# Altium schematic symbol library RK3588底板.SCHLIB: 111 symbols
Pins are listed as number, name and electrical type; pins without a type are passive.

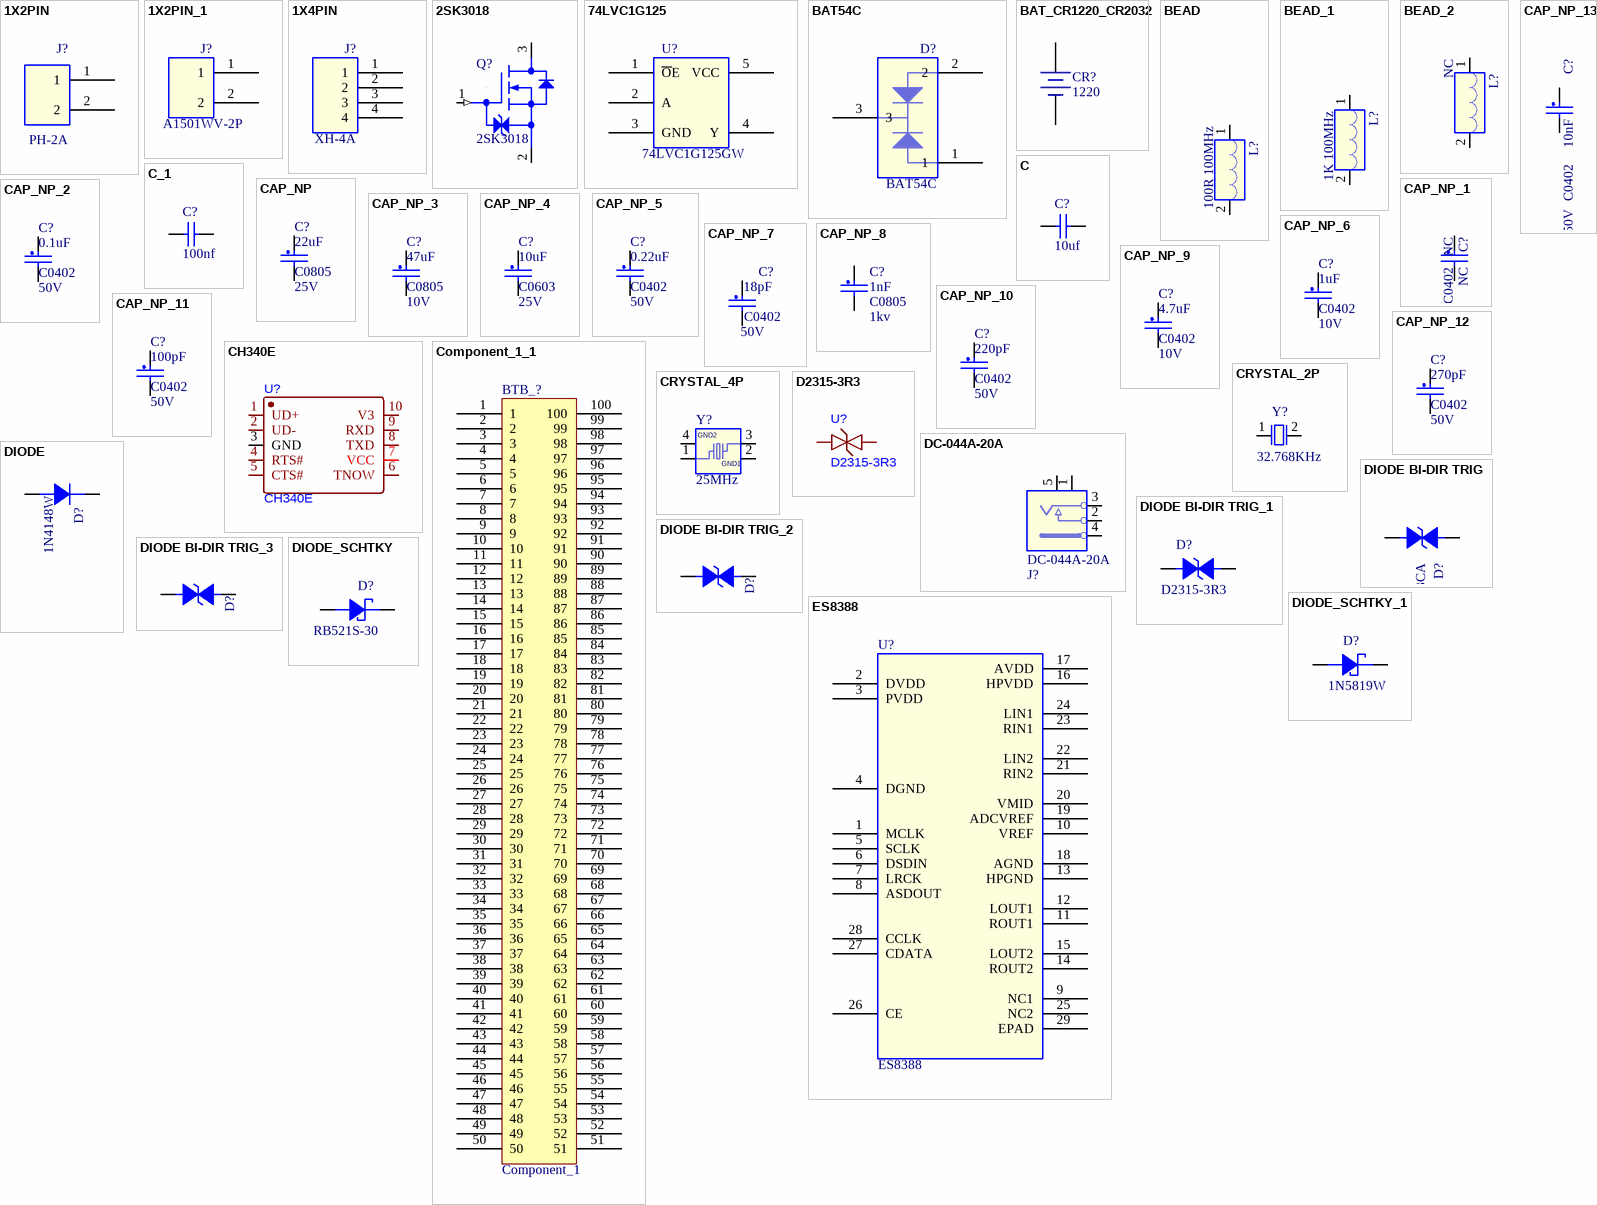
[diagram p0: symbols 1X2PIN to ES8388]

## 1X2PIN
designator J?, comment PH-2A
PCB Footprint: PH-1x2-2P0_l; 可替代料: EBF29040005; 生命周期: 量产; 价格: 0.019031; 规格书: 博穆精密_PH2.0-A.pdf; 类别: PH连接器; 品牌: 博穆精密; 规格: 直针PH2.0-2P 间距2.0MM 拔插式 接插件; 条码: EBF29040005; 规格编号: PH-2A
footprint PH-1x2-2P0_l
pins: 1, 2

## 1X2PIN_1
designator J?, comment A1501WV-2P
PCB Footprint: zh1p5mm_th_2p; 生命周期: 量产; 规格书: 长江连接器_A1501WV-2P.PDF; 类别: 线对板连接器; 品牌: 长江连接器; 条码: EBF29040095; 规格: ZH1.5直插 镀锡 2P 针座连接器; 规格编号: A1501WV-2P
footprint zh1p5mm_th_2p
pins: 1, 2

## 1X4PIN
designator J?, comment XH-4A
PCB Footprint: XH2p54-4p; 可替代料: EBF29040012; 生命周期: 量产; 价格: 0.041116; 规格书: 博穆精密-XH2.54.pdf; 类别: XH连接器; 品牌: 博穆精密; 规格: 直针XH2.54-4P 间距2.54MM 拔插式 接插件 直插; 条码: EBF29040012; 规格编号: XH-4A
footprint XH2p54-4p
pins: 1, 2, 3, 4

## 2SK3018
designator Q?
CLASS: IC; PCB Footprint: SOT23; 丝印: KN; 生命周期: 量产; 价格: 0.120725; 规格书: 长电科技-2SK3018.pdf; 类别: N-MOS; 品牌: 江苏长电; 条码: EBF29280009; 规格: N沟道MOS 导通电阻8Ω 电流10mA 0.8V可驱动; 规格编号: 2SK3018
footprint SOT23
pins: 1 GATE (in), 2 SOURCE, 3 DRAIN

## 74LVC1G125
designator U?, comment 74LVC1G125GW
PCB Footprint: SOT-353; 丝印: VM; 生命周期: 量产; 价格: 0.182409; 规格书: 74LVC1G125GW.pdf; 类别: 隔离器件; 品牌: 安世; 条码: EBF29170001; 规格: 时钟缓冲器 驱动器 具有三态输出 允许工作电压为3.3V 5.5V 典型工作电流100mA; 规格编号: 74LVC1G125GW
footprint SOT-353
pins: 1 ~{O}E, 2 A, 3 GND, 4 Y, 5 VCC

## BAT54C
designator D?
PCB Footprint: SOT23; 规格: 肖特基双二极管 直流反向耐压(Vr) 30V 平均整流电流(Io) 300mA 正向压降(Vf) 1V@100mA; 条码: EBF29140062; 品牌: 江苏长电; 类别: 贴片肖特基二极管; 规格书: 江苏长电_BAT54C.pdf; 价格: 0.077486; 生命周期: 量产; 丝印: KL3; 规格编号: BAT54C
footprint SOT23
pins: 1, 2, 3

## BAT_CR1220_CR2032
designator CR?, comment 1220
微型电池; 联系下单店铺卖家 免费技术支持: 联系下单店铺卖家 免费帮你查找封装; BOM名称: 微型电池
footprint CR1220_A (纽扣电池座)
footprint CR1220_B (纽扣电池座)
footprint ML621FE (可充电纽扣电池)
footprint CR2032_A (纽扣电池座)
footprint CR2032_B (纽扣电池座)
pins: 1 DC+, 2 DC-

## BEAD
designator L?, comment 100R 100MHz
CLASS: DISCRETE; 规格: 磁珠100Ω @100MHz 额定电流3A 直流电阻30mΩ; 规格编号: UPZ1608E101-3R0TF; 条码: EBF29050038; 品牌: 顺络; 类别: 贴片磁珠0603; 规格书: 顺络-磁珠.pdf; 价格: 0.021567; 生命周期: 量产; PCB Footprint: L0603
footprint L0603
pins: 1, 2

## BEAD_1
designator L?, comment 1K 100MHz
CLASS: DISCRETE; 规格: 磁珠1K@100MHz额定电流600mA直流电阻350mΩ; 规格编号: BLM18HE102SN1D; 条码: EBFCIS230428095012; 品牌: 村田; 类别: 贴片磁珠0603; 规格书: 村田_BLM18H_SN系列磁珠.pdf; 价格: 0.149038; 生命周期: 量产; 备注: RK3566广告机; PCB Footprint: L0603
footprint L0603
pins: 1, 2

## BEAD_2
designator L?, comment NC
CLASS: DISCRETE; 生命周期: 量产; 价格: 0.021567; 规格书: 顺络-磁珠.pdf; 类别: 贴片磁珠0603; 品牌: 顺络; 条码: EBF29050038; 规格编号: UPZ1608E101-3R0TF; 规格: 磁珠100Ω @100MHz 额定电流3A 直流电阻30mΩ; PCB Footprint: L0603
footprint L0603
pins: 1, 2

## C
designator C?, comment 10uf
贴片电容/MLCC电容; BOM名称: 无极性贴片电容; 联系下单店铺卖家 免费帮你查找封装: 联系下单店铺卖家 免费技术支持
footprint C0201_L (贴片MLCC电容)
footprint C0402_L (贴片MLCC电容)
footprint C0603_L (贴片MLCC电容)
footprint C0805_L (贴片MLCC电容)
footprint C1206_L (贴片MLCC电容)
footprint C1210_L (贴片MLCC电容)
footprint C1808_L (贴片MLCC电容)
footprint C1812_L (贴片MLCC电容                  联系卖家 免费查找封装)
footprint C1825_L (贴片MLCC电容)
footprint C2225_L (贴片MLCC电容)
footprint C0201_M (贴片MLCC电容                联系卖家 免费查找封装)
footprint C0402_M (贴片MLCC电容)
footprint C0603_M (贴片MLCC电容)
footprint C0805_M (贴片MLCC电容)
footprint C1206_M (贴片MLCC电容)
footprint C1210_M (贴片MLCC电容)
footprint C1808_M (贴片MLCC电容)
footprint C1812_M (贴片MLCC电容)
footprint C1825_M (贴片MLCC电容      联系卖家 免费查找封装)
footprint C2225_M (贴片MLCC电容)
footprint C0201_NS (贴片MLCC电容-无丝印)
footprint C0402_NS (贴片MLCC电容-无丝印)
footprint C01005_NS (贴片MLCC电容-无丝印)
footprint C0805_NS (贴片MLCC电容-无丝印)
footprint C1206_NS (贴片MLCC电容-无丝印)
footprint C1210_NS (贴片MLCC电容 -无丝印)
footprint C0603_NS (贴片MLCC电容-无丝印)
footprint C0204_NS (贴片MLCC电容-无丝印)
footprint C1111_NS (贴片MLCC电容-无丝印)
footprint C2220 (贴片MLCC电容)
footprint C3838 (贴片MLCC电容-无丝印)
pins: 1, 2

## C_1
designator C?, comment 100nf
贴片电容/MLCC电容; BOM名称: 无极性贴片电容; 联系下单店铺卖家 免费帮你查找封装: 联系下单店铺卖家 免费技术支持
footprint C0201_L (贴片MLCC电容)
footprint C0402_L (贴片MLCC电容)
footprint C0603_L (贴片MLCC电容)
footprint C0805_L (贴片MLCC电容)
footprint C1206_L (贴片MLCC电容)
footprint C1210_L (贴片MLCC电容)
footprint C1808_L (贴片MLCC电容)
footprint C1812_L (贴片MLCC电容                  联系卖家 免费查找封装)
footprint C1825_L (贴片MLCC电容)
footprint C2225_L (贴片MLCC电容)
footprint C0201_M (贴片MLCC电容                联系卖家 免费查找封装)
footprint C0402_M (贴片MLCC电容)
footprint C0603_M (贴片MLCC电容)
footprint C0805_M (贴片MLCC电容)
footprint C1206_M (贴片MLCC电容)
footprint C1210_M (贴片MLCC电容)
footprint C1808_M (贴片MLCC电容)
footprint C1812_M (贴片MLCC电容)
footprint C1825_M (贴片MLCC电容      联系卖家 免费查找封装)
footprint C2225_M (贴片MLCC电容)
footprint C0201_NS (贴片MLCC电容-无丝印)
footprint C0402_NS (贴片MLCC电容-无丝印)
footprint C01005_NS (贴片MLCC电容-无丝印)
footprint C0805_NS (贴片MLCC电容-无丝印)
footprint C1206_NS (贴片MLCC电容-无丝印)
footprint C1210_NS (贴片MLCC电容 -无丝印)
footprint C0603_NS (贴片MLCC电容-无丝印)
footprint C0204_NS (贴片MLCC电容-无丝印)
footprint C1111_NS (贴片MLCC电容-无丝印)
footprint C2220 (贴片MLCC电容)
footprint C3838 (贴片MLCC电容-无丝印)
pins: 1, 2

## CAP_NP
designator C?, comment 22uF  Voltage: 25V  PCB Footprint: C0805
CLASS: DISCRETE; 规格: 贴片电容22uF 20% 25V X5R 0805; 规格编号: 0805X226M250NT; 条码: EBF29060173; 品牌: 风华; 类别: 贴片电容0805; 规格书: 风华电容.pdf; 价格: 0.285631; 生命周期: 量产
footprint C0805
pins: 1, 2

## CAP_NP_1
designator C?, comment NC  PCB Footprint: C0402
CLASS: DISCRETE; 规格: 贴片电容NC 预留; 条码: EBF29060149; 类别: 贴片电容0402; Voltage: NC
footprint C0402
pins: 1, 2

## CAP_NP_2
designator C?, comment 0.1uF  Voltage: 50V  PCB Footprint: C0402
CLASS: DISCRETE; 规格: 贴片电容0.1uF 10% 50V X5R 0402; 规格编号: 0402X104K500NT; 条码: EBF29060118; 品牌: 风华; 类别: 贴片电容0402; 规格书: 风华电容.pdf; 价格: 0.029826; 生命周期: 量产
footprint C0402
pins: 1, 2

## CAP_NP_3
designator C?, comment 47uF  Voltage: 10V  PCB Footprint: C0805
CLASS: DISCRETE; 规格: 贴片电容47uF 20% 10V X5R 0805; 规格编号: 0805X476M100NT; 条码: EBF29060212; 品牌: 风华; 类别: 贴片电容0805; 规格书: 风华电容.pdf; 价格: 0.368494; 生命周期: 量产
footprint C0805
pins: 1, 2

## CAP_NP_4
designator C?, comment 10uF  Voltage: 25V  PCB Footprint: C0603
CLASS: DISCRETE; 生命周期: 量产; 价格: 0.109811; 规格书: 三星电容.pdf; 类别: 贴片电容0603; 品牌: 三星; 条码: EBF29060171; 规格编号: CL10A106MA8NRNC; 规格: 贴片电容10uF 20% 25V X5R 0603
footprint C0603
pins: 1, 2

## CAP_NP_5
designator C?, comment 0.22uF  Voltage: 50V  PCB Footprint: C0402
CLASS: DISCRETE; 生命周期: 量产; 价格: 0.074942; 规格书: 太诱-贴片电容.pdf; 类别: 贴片电容0402; 品牌: 太诱; 条码: EBF29060266; 规格编号: UMK105BJ224MV-F; 规格: 贴片电容0.22uF 20% 50V X5R 0402
footprint C0402
pins: 1, 2

## CAP_NP_6
designator C?, comment 1uF  Voltage: 10V  PCB Footprint: C0402
CLASS: DISCRETE; 规格: 贴片电容1uF 10% 10V X5R 0402; 规格编号: 0402X105K100NT; 条码: EBF29060121; 品牌: 风华; 类别: 贴片电容0402; 规格书: 风华电容.pdf; 价格: 0.01191; 生命周期: 量产
footprint C0402
pins: 1, 2

## CAP_NP_7
designator C?, comment 18pF  Voltage: 50V  PCB Footprint: C0402
CLASS: DISCRETE; 规格: 贴片电容18pF 5% 50V C0G 0402; 规格编号: 0402CG180J500NT; 条码: EBF29060235; 品牌: 风华; 类别: 贴片电容0402; 规格书: 风华电容.pdf; 价格: 0.00515; 生命周期: 量产
footprint C0402
pins: 1, 2

## CAP_NP_8
designator C?, comment 1nF  Voltage: 1kv  PCB Footprint: C0805
CLASS: DISCRETE; 生命周期: 量产; 价格: 0.083527; 规格书: 华新科0805系列高压贴片电容.pdf; 类别: 贴片电容0805; 品牌: 华新科; 条码: EBF29060304; 规格编号: 0805B102K102CT; 规格: 贴片电容1nF 10% 1kV X7R 0805
footprint C0805
pins: 1, 2

## CAP_NP_9
designator C?, comment 4.7uF  Voltage: 10V  PCB Footprint: C0402
CLASS: DISCRETE; 规格: 贴片电容4.7uF 10% 10V X5R 0402; 规格编号: CC0402KRX5R6BB475; 条码: EBF29060248; 品牌: 国巨; 类别: 贴片电容0402; 规格书: 国巨-贴片电容.pdf; 价格: 0.059058; 生命周期: 量产
footprint C0402
pins: 1, 2

## CAP_NP_10
designator C?, comment 220pF  Voltage: 50V  PCB Footprint: C0402
CLASS: DISCRETE; 价格: 0.00358; 规格书: 风华电容.pdf; 类别: 贴片电容0402; 品牌: 风华; 条码: EBFCIS221112143723; 规格编号: 0402B221K500NT; 规格: 贴片电容220pF 10% 50V X7R 0402
footprint C0402
pins: 1, 2

## CAP_NP_11
designator C?, comment 100pF  Voltage: 50V  PCB Footprint: C0402
CLASS: DISCRETE; 生命周期: 量产; 价格: 0.034837; 规格书: 村田040系列贴片电容.pdf; 类别: 贴片电容0402; 品牌: 村田; 条码: EBF29060302; 规格编号: GRT1555C1H101JA; 规格: 贴片电容100pF 5% 50V C0G 0402
footprint C0402
pins: 1, 2

## CAP_NP_12
designator C?, comment 270pF  Voltage: 50V  PCB Footprint: C0402
CLASS: DISCRETE; 规格: 贴片电容270pF 5% 50V C0G 0402; 规格编号: 0402CG271J500NT; 条码: EBF29060290; 品牌: 风华; 类别: 贴片电容0402; 规格书: 风华电容.pdf; 价格: 0.018204; 生命周期: 量产
footprint C0402
pins: 1, 2

## CAP_NP_13
designator C?, comment 10nF  Voltage: 50V  PCB Footprint: C0402
CLASS: DISCRETE; 规格: 贴片电容10nF 10% 50V X7R 0402; 规格编号: CC0402KRX7R9BB103; 条码: EBF29060245; 品牌: 国巨; 类别: 贴片电容0402; 规格书: 国巨-贴片电容.pdf; 价格: 0.003808; 生命周期: 量产
footprint C0402
pins: 1, 2

## CH340E
designator U?
footprint MSOP-10_L3.0-W3.0-P0.50-LS5.0-BL
pins: 1 UD+, 2 UD-, 3 GND, 4 RTS#, 5 CTS#, 6 TNOW, 7 VCC, 8 TXD, 9 RXD, 10 V3

## Component_1_1
designator BTB_?, comment Component_1
footprint F_100PIN (0.5双槽板对板母座，100P)
pins: 1, 2, 3, 4, 5, 6, 7, 8, 9, 10, 11, 12, 13, 14, 15, 16, 17, 18, 19, 20, 21, 22, 23, 24, 25, 26, 27, 28, 29, 30, 31, 32, 33, 34, 35, 36, 37, 38, 39, 40, 41, 42, 43, 44, 45, 46, 47, 48, 49, 50, 51, 52, 53, 54, 55, 56, 57, 58, 59, 60, 61, 62, 63, 64, 65, 66, 67, 68, 69, 70, 71, 72, 73, 74, 75, 76, 77, 78, 79, 80, 81, 82, 83, 84, 85, 86, 87, 88, 89, 90, 91, 92, 93, 94, 95, 96, 97, 98, 99, 100

## CRYSTAL_2P
designator Y?, comment 32.768KHz
PCB Footprint: 3215; 生命周期: 量产; 价格: 2.57; 规格书: 爱普生-32.768KHz.pdf; 类别: 贴片晶振 3215; 品牌: 爱普生; 条码: EBF29100004; 规格编号: Q13FC1350000300; 规格: 无源晶振32.768KHz 70KΩ 9pF 3215
footprint 3215
pins: 1, 2

## CRYSTAL_4P
designator Y?, comment 25MHz
CLASS: IC; PCB Footprint: 3225; 规格: 无源晶振25MHZ 50Ω 16pF 3225; 规格编号: X322525MQB4SI; 条码: EBF29100005; 品牌: 扬兴科技; 类别: 贴片晶振 3225; 规格书: 扬兴科技-25MHZ.pdf; 价格: 0.385846; 生命周期: 量产
footprint 3225
pins: 1, 2 GND1 (power), 3, 4 GND2 (power)

## D2315-3R3
designator U?
footprint DFN1006-2L-BI
pins: 1, 2

## DC-044A-20A
designator J?
PCB Footprint: dc_in_th_3p_10r1x11r6; 生命周期: 量产; 规格书: DC插座_内径_2MM外径_5.9MM.pdf; 类别: DC电源座; 条码: EBF29040093; 规格编号: DC-044A-20A DC; 规格: DC-044A-20A DC插座
footprint dc_in_th_3p_10r1x11r6
pins: 1, 2, 3, 4, 5

## DIODE
designator D?, comment 1N4148W
丝印: T4; 生命周期: 量产; 价格: 0.061637; 规格书: 1N4148WT4.pdf; 类别: 贴片开关二极管; 品牌: 江苏长电; 条码: EBF29140015; 规格: 开关二极管 反向耐压值100V 平均整流电流150mA 正向压降1.25V 150mA 功率500mW; PCB Footprint: SOD-123; 规格编号: 1N4148W
footprint SOD-123
pins: 1 K, 2 A

## DIODE BI-DIR TRIG
designator D?, comment SMAJ13CA
规格: TVS二极管 箝位电压21.5V 击穿电压14.4V 反向关断电压13V; 条码: EBF29140049; 品牌: 伯恩半导体; 类别: 贴片TVS; PCB Footprint: SMA_CA; 规格书: 伯恩半导体-SMAJ13CA.pdf; 价格: 0.181964; 生命周期: 量产; 规格编号: SMAJ13CA
footprint D0603/SMD
footprint SMA_CA
footprint esd0402
pins: 1, 2

## DIODE BI-DIR TRIG_1
designator D?, comment D2315-3R3
PCB Footprint: esd0402; 生命周期: 量产; 规格书: 千虹_D2315-3R3.pdf; 类别: 贴片ESD; 品牌: 千虹; 条码: EBFCIS240517170749; 规格: 防静电保护ESD二极管 反向工作电压3.3V 击穿电压3.5V 钳位电压9V 结电容Cj 10pF; 备注: 通用; 规格编号: D2315-3R3
footprint D0603/SMD
footprint esd0402
pins: 1, 2

## DIODE BI-DIR TRIG_2
designator D?, comment D2315-5R0B  (value not drawn)
PCB Footprint: esd0402; 备注: 通用; 生命周期: 量产; 规格书: 千虹_D2315-5R0B.pdf; 类别: 贴片ESD; 品牌: 千虹; 条码: EBFCIS240517170922; 规格: 防静电保护ESD二极管 反向工作电压5V 击穿电压7V 钳位电压10.5V 结电容Cj 0.3pF; 规格编号: D2315-5R0B
footprint D0603/SMD
footprint esd0402
pins: 1, 2

## DIODE BI-DIR TRIG_3
designator D?, comment D1250-5R5C  (value not drawn)
PCB Footprint: R0201; 备注: 应用于HDMI2.1; 生命周期: 量产; 规格书: 千虹_D1250-5R5C.pdf; 类别: 贴片ESD; 品牌: 千虹; 条码: EBFCIS240604160037; 规格: 防静电保护ESD二极管 反向工作电压5.5V 击穿电压6V 钳位电压10.5V 结电容Cj 0.17pF; 规格编号: D1250-5R5C
footprint D0603/SMD
footprint R0201
footprint esd0402
pins: 1, 2

## DIODE_SCHTKY
designator D?, comment RB521S-30
CLASS: IC; PCB Footprint: SOD523; 生命周期: 量产; 价格: 0.06781; 规格书: 江苏长电_RB521S-30.pdf; 类别: 贴片肖特基二极管; 品牌: 江苏长电; 条码: EBFCIS221114153437; 规格: 直流反向耐压(Vr)：30V 平均整流电流(Io)：200mA 正向压降(Vf)：500mV@200mA 30V@100mA,VF=350mV@10mA; 规格编号: RB521S-30
footprint SOD523
pins: 1, 2

## DIODE_SCHTKY_1
designator D?, comment 1N5819W
CLASS: IC; PCB Footprint: SOD-123; 规格: 肖特基二极管 直流反向耐压40V 平均整流电流1A 正向压降0.6V@1A SOD-123; 条码: EBF29140016; 品牌: 台湾迪嘉; 类别: 贴片肖特基二极管; 规格书: 1N5819W.pdf; 价格: 0.175675; 生命周期: 量产; 丝印: SL; 规格编号: 1N5819W
footprint SOD-123
pins: 1, 2

## ES8388
designator U?
价格: 3.904; 规格书: 顺芯_ES8388.pdf; 类别: 音频芯片; 品牌: 顺芯; 条码: EBFCIS221116105415; 规格: 音频接口芯片 模拟供电1.7V~3.6V 核心与IO供电1.5V~3.6V; PCB Footprint: qfn28_0r45-4x4EP2R6X2R6; 规格编号: ES8388
footprint qfn28_0r45-4x4EP2R6X2R6
pins: 1 MCLK, 2 DVDD, 3 PVDD, 4 DGND, 5 SCLK, 6 DSDIN, 7 LRCK, 8 ASDOUT, 9 NC1, 10 VREF, 11 ROUT1, 12 LOUT1, 13 HPGND, 14 ROUT2, 15 LOUT2, 16 HPVDD, 17 AVDD, 18 AGND, 19 ADCVREF, 20 VMID, 21 RIN2, 22 LIN2, 23 RIN1, 24 LIN1, 25 NC2, 26 CE, 27 CDATA, 28 CCLK, 29 EPAD

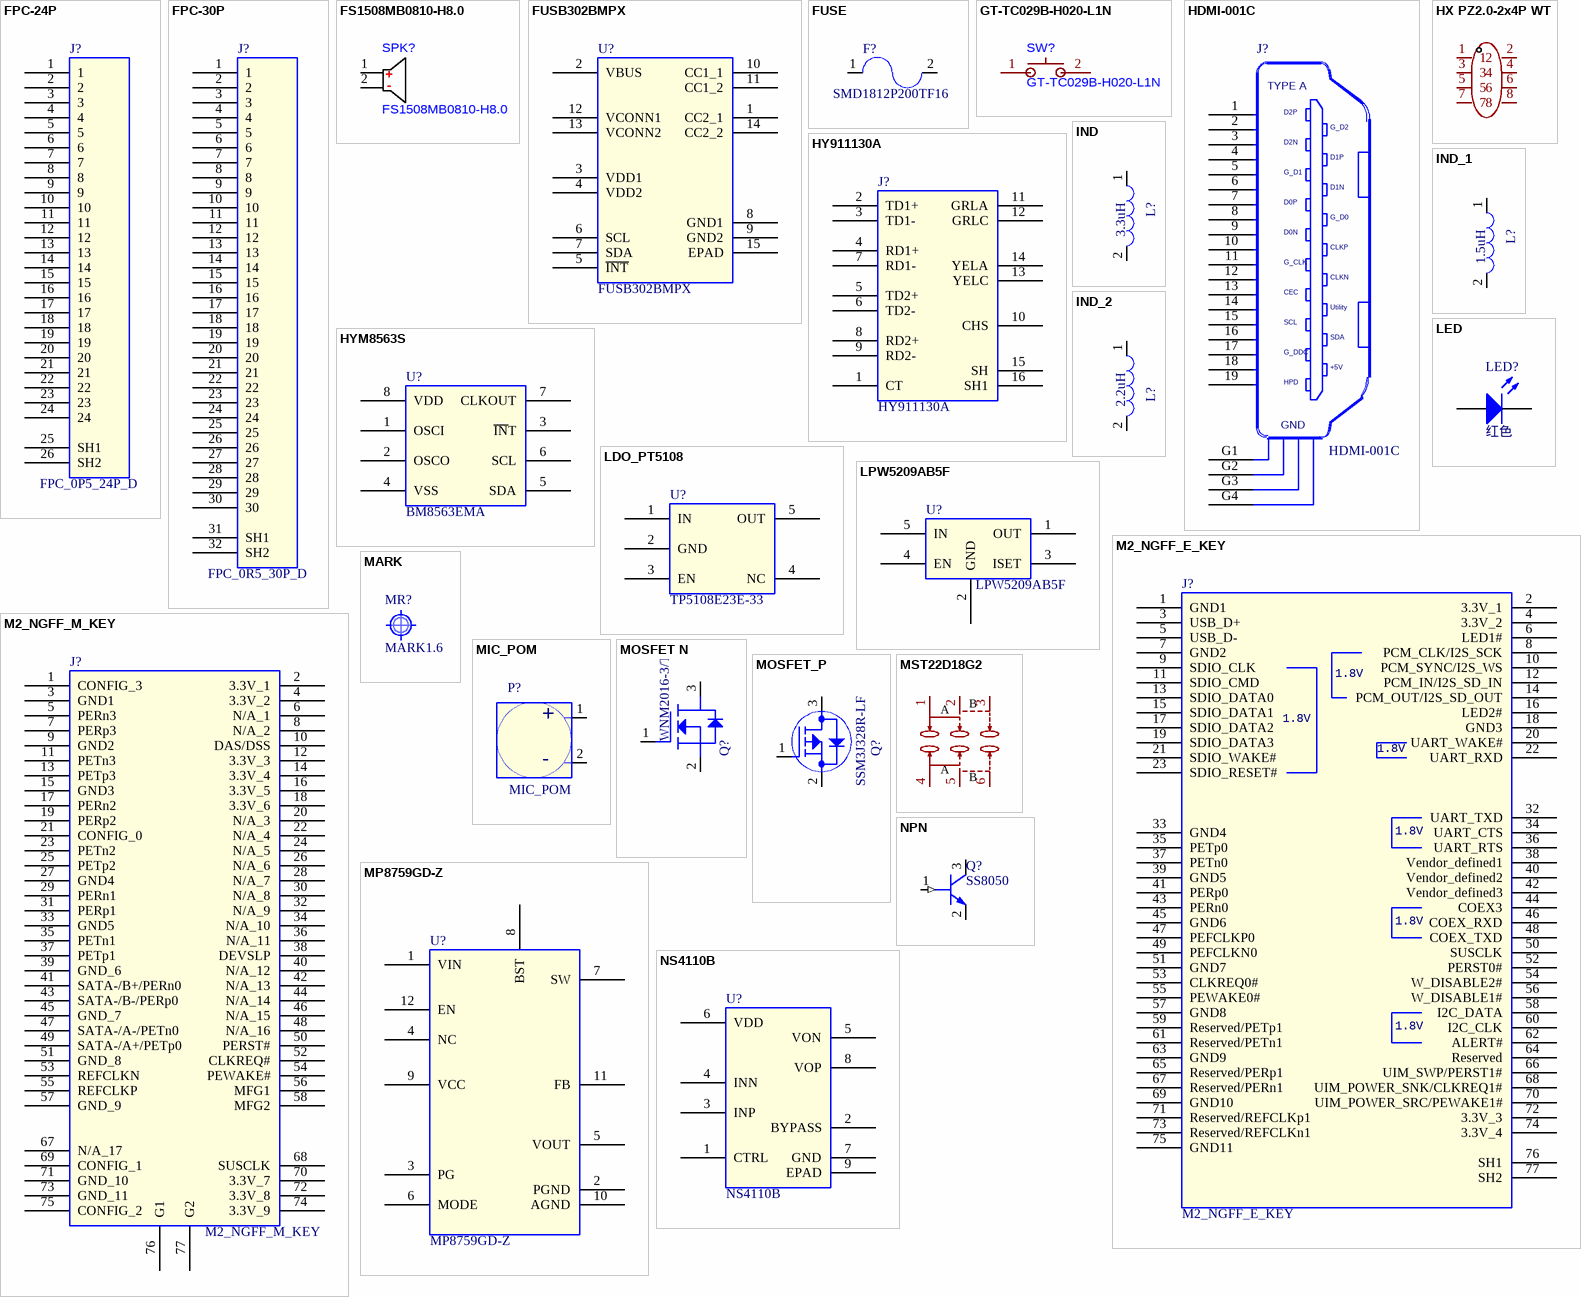
[diagram p1: symbols FPC-24P to NS4110B]

## FPC-24P
designator J?, comment FPC_0P5_24P_D
PCB Footprint: fpc_24p_0p5; 规格: FPC连接器 针脚数24 间距0.5mmm 下接 卧贴 翻盖式; 规格编号: AFC01-S24FCA-00; 条码: EBF29040059; 品牌: 钜硕电子; 类别: FPC连接器; 规格书: 钜硕电子-FPC间距0.5mm.pdf; 价格: 0.368739; 生命周期: 量产; 可替代料: EBF29040059
footprint fpc_24p_0p5
pins: 1, 2, 3, 4, 5, 6, 7, 8, 9, 10, 11, 12, 13, 14, 15, 16, 17, 18, 19, 20, 21, 22, 23, 24, 25 SH1, 26 SH2

## FPC-30P
designator J?, comment FPC_0R5_30P_D
PCB Footprint: FPC-30P-0P5; 规格: FPC连接器 针脚数30 间距0.5mm 高度2.0mm 下接 卧贴 翻盖式; 规格编号: FPC-05F-30PH20; 条码: EBF29040079; 品牌: 讯普; 类别: FPC连接器; 规格书: FPC-05F-NPH20.pdf; 生命周期: 量产
footprint FPC-30P-0P5
pins: 1, 2, 3, 4, 5, 6, 7, 8, 9, 10, 11, 12, 13, 14, 15, 16, 17, 18, 19, 20, 21, 22, 23, 24, 25, 26, 27, 28, 29, 30, 31 SH1, 32 SH2

## FS1508MB0810-H8.0
designator SPK?
footprint BEEP-TH_BD15.0-P10.20-D1.2
pins: 1, 2

## FUSB302BMPX
designator U?
生命周期: 量产; 价格: 3.8016; 规格书: 安森美_FUSB302BMPX.pdf; 类别: USB芯片; 品牌: 安森美; 条码: EBFCIS221116112239; 规格: 可编程USB Type-C控制器 支持USB Type-C检测 带PD 可实现高达 100 W 的电源和角色互换; PCB Footprint: WQFN14-0R50-2R5X2R5EP1R45X1R45; 规格编号: FUSB302BMPX
footprint WQFN14-0R50-2R5X2R5EP1R45X1R45
pins: 1 CC2_1, 2 VBUS, 3 VDD1, 4 VDD2, 5 ~{INT}, 6 SCL, 7 SDA, 8 GND1, 9 GND2, 10 CC1_1, 11 CC1_2, 12 VCONN1, 13 VCONN2, 14 CC2_2, 15 EPAD

## FUSE
designator F?, comment SMD1812P200TF16
规格: 自恢复保险丝 最大电压46V 最大电流100A 保持电流2A 跳闸电流4A; 条码: EBF29270006; 品牌: 瑞隆源; 类别: 自恢复保险丝; 规格书: 瑞隆源-自恢复保险丝.pdf; 价格: 0.385618; 生命周期: 量产; PCB Footprint: F1812; 规格编号: SMD1812P200TF16
footprint F1812
pins: 1, 2

## GT-TC029B-H020-L1N
designator SW?
footprint SW-SMD_L3.9-W2.9-P4.15-LS5.0
pins: 1, 2

## HDMI-001C
designator J?
VPN: 1166-2C105-211; Vendor: Comtek; OriginalSymbolOrigin: (-200,650); CLASS: IO; PCB Footprint: HDMI-SMD; 规格: HDMI立式; 条码: EBF29040081; 品牌: 讯普; 类别: HDMI连接器; 规格书: HDMI-001C.pdf; 生命周期: 量产; 规格编号: HDMI-001C
footprint HDMI-SMD
pins: 1, 2, 3, 4, 5, 6, 7, 8, 9, 10, 11, 12, 13, 14, 15, 16, 17, 18, 19, G1 20, G2 21, G3 22, G4 23
text: TYPE A; D2P; G_D2; D2N; D1P; G_D1; D1N; D0P; G_D0; D0N; CLKP; G_CLK; CLKN; CEC; Utility; SCL; SDA; G_DDC; +5V; HPD; GND

## HX PZ2.0-2x4P WT
designator H?  (value not drawn)
Manufacturer: hanxia(韩下); Add into BOM: yes; Pin Structure: 2x4P; Pitch: 2mm; Circluar Pins/Square Pins: 方针; Current Rating: 1.5A; Voltage Rating (Max): 500V; Symbol: HX PZ2.0-2X4P WT; Device: HX PZ2.0-2x4P WT; LCSC Part Name: 配套排母：HX PM2.0-2x4P系列 2x4P 间距:2mm 方针 卧贴; Supplier Part: C46061659; Manufacturer Part: HX PZ2.0-2x4P WT; Supplier Footprint: SMD,P=2mm,卧贴; Datasheet: https://item.szlcsc.com/datasheet/HX%2520PZ2.0-2x4P%2520WT/48170519.html; Supplier: LCSC; Convert to PCB: yes; Row Spacing: 2mm; Mounting Type: 卧贴; Number of Rows: 双排; Number of Pins: 8P; Length of Mating Pin: 4mm; Insulation Height: 2mm; Length of End Connection Pin: -; Contact Material: 黄铜; Contact Plating: 金; Operating Temperature: -40℃~+105℃; Color: 黑色; Supplementary Features: -
footprint HDR-SMD_HX-PZ2.0-2X4P-WT
pins: 1, 2, 3, 4, 5, 6, 7, 8

## HY911130A
designator J?
规格: 屏蔽式以太网连接器RJ45 引脚数14 LED灯黄绿 1000M; 条码: EBF29040053; 品牌: 汉仁; 类别: 网口; 规格书: 汉仁_1000M_ HY911130A.pdf; 价格: 11.12; 生命周期: 量产; PCB Footprint: HY911130A; 规格编号: HY911130A; 可替代料: EBF29040053
footprint HY911130A
pins: 1 CT, 2 TD1+, 3 TD1-, 4 RD1+, 5 TD2+, 6 TD2-, 7 RD1-, 8 RD2+, 9 RD2-, 10 CHS, 11 GRLA, 12 GRLC, 13 YELC, 14 YELA, 15 SH, 16 SH1

## HYM8563S
designator U?, comment BM8563EMA
生命周期: 量产; 价格: 0.8789; 规格书: 捷茂微_BM8563EMA.pdf; 类别: 实时时钟芯片; 品牌: 捷茂微; 条码: EBFCIS240229100017; 规格: 工作电压1.5V~5.5V 日期格式YY-MM-DD 时间格式HH:MM:SS 接口类型I2C 电流消耗0.25uA~@3.0V; PCB Footprint: msop-8; 备注: 鲁班猫系列板子; 规格编号: BM8563EMA
footprint msop-8
pins: 1 OSCI, 2 OSCO, 3 ~{IN}T, 4 VSS, 5 SDA, 6 SCL, 7 CLKOUT, 8 VDD

## IND
designator L?, comment 3.3uH
CLASS: DISCRETE; 价格: 1.5992; 规格编号: TMPC0402HP-3R3MG-Z02; 生命周期: 量产; 规格书: 台庆-功率电感.pdf; 类别: 贴片电感0402; 品牌: 台庆; 条码: EBF29050040; 规格: 贴片电感3.3uH ±20% 3A 直流电阻69mΩ; PCB Footprint: l4520
footprint l4520
pins: 1, 2

## IND_1
designator L?, comment 1.5uH
CLASS: DISCRETE; 生命周期: 量产; 价格: 0.525895; 规格书: 长江微电_FXL0518-1R5-M.pdf; 类别: 贴片电感SMD; 品牌: 长江微电; 条码: EBFCIS221116170516; 规格编号: FXL0518-1R5-M; 规格: 贴片电感1.5uH ±20% 7.5A 直流电阻25mΩ; PCB Footprint: L0518
footprint L0518
pins: 1, 2

## IND_2
designator L?, comment 2.2uH
CLASS: DISCRETE; 规格: 功率电感2.2uH 2.2uH ±20% 2.06A 85mΩ; 规格编号: WIP252012P-2R2ML; 条码: EBFCIS220927171910; 品牌: 佳邦; 类别: 贴片电感2520; 规格书: 佳邦_ WIP252012P-2R2ML.pdf; 价格: 0.129914; 生命周期: 量产; PCB Footprint: L2520
footprint L2520
pins: 1, 2

## LDO_PT5108
designator U?, comment TP5108E23E-33
PCB Footprint: SOT23-5; 规格: 低压差LDO 最高7V 输出3.3V 最大电流500mA 压差300mV@(200mA) 低噪声 高PSRR; 条码: EBF29110067; 品牌: 台舟; 类别: 电源管理-LDO; 规格书: 台舟TP5108E.pdf; 价格: 0.48864; 生命周期: 量产; 规格编号: TP5108E23E-33
footprint SOT23-5
pins: 1 IN, 2 GND, 3 EN, 4 NC, 5 OUT

## LED
designator LED?, comment 红色
贴片LED; 封装库来自淘宝卖家：黄晶宝石: 其他店铺购入均为盗版封装库，无更新权益，请立即申请退款，本店现金奖励200~1000元; BOM名称: 贴片LED
footprint LED0603_W (白色0603LED)
footprint LED0603_R (红色0603LED)
footprint LED0603_B (蓝色0603LED)
footprint LED0603_G (绿色0603LED)
footprint LED0603_Y (黄色0603LED)
footprint LED0805_G (绿色0805LED)
footprint LED0805_R (红色0805LED)
footprint LED0805_B (蓝色0805LED)
footprint LED0805_Y (黄色0805LED)
footprint LED 3528-2Pin (2脚，3528LED)
footprint LED1206_G (绿色1206LED)
footprint LED 5730-V (紫色5730LED)
footprint LED1206_Y (黄色1206LED)
footprint LED0805_W (白色0805LED)
footprint LED1206_B (蓝色1206LED)
footprint LED1206_W (白色1206LED)
footprint LED1206_R (红色1206LED)
footprint LED0402_B (蓝色0402LED)
footprint LED0402_G (绿色0402LED)
footprint LED0402_R (红色0402LED)
footprint LED0402_W (白色0402LED)
footprint LED0402_Y (黄色0402LED)
footprint LED0201 (0201 LED)
pins: 1 A, 2 K

## LPW5209AB5F
designator U?
生命周期: 量产; 价格: 0.468063; 规格书: 微源半导体_LPW5209AB5F.pdf; 类别: 功率开关; 品牌: 微源半导体; 条码: EBF29280015; 规格: 集成电源开关 导通电阻：80mΩ 最大可设置保护电流：2.1A 输入电压：2.5V~6V 静态电流：30uA 其他功能：软启动、短路保护、热保护; PCB Footprint: SOT23-5; 规格编号: LPW5209AB5F
footprint SOT23-5
pins: 1 OUT, 2 GND, 3 ISET, 4 EN, 5 IN

## M2_NGFF_E_KEY
designator J?
规格: M.2 NGFF 高度5.5MM M.2 E KEY连接器 75PIN; 规格编号: APCI0317-P001A; 条码: EBFCIS230525165441; 品牌: LOTES; 类别: 金手指连接器; 规格书: LOTES_APCI0317-P001A.pdf; 生命周期: 量产; 备注: RK3588 LBC5 M2无线网卡连接器; PCB Footprint: M2_NGFF_E_KEY
footprint M2_NGFF_E_KEY
pins: 1 GND1, 2 3.3V_1, 3 USB_D+, 4 3.3V_2, 5 USB_D-, 6 LED1#, 7 GND2, 8 PCM_CLK/I2S_SCK, 9 SDIO_CLK, 10 PCM_SYNC/I2S_WS, 11 SDIO_CMD, 12 PCM_IN/I2S_SD_IN, 13 SDIO_DATA0, 14 PCM_OUT/I2S_SD_OUT, 15 SDIO_DATA1, 16 LED2#, 17 SDIO_DATA2, 18 GND3, 19 SDIO_DATA3, 20 UART_WAKE#, 21 SDIO_WAKE#, 22 UART_RXD, 23 SDIO_RESET#, 32 UART_TXD, 33 GND4, 34 UART_CTS, 35 PETp0, 36 UART_RTS, 37 PETn0, 38 Vendor_defined1, 39 GND5, 40 Vendor_defined2, 41 PERp0, 42 Vendor_defined3, 43 PERn0, 44 COEX3, 45 GND6, 46 COEX_RXD, 47 PEFCLKP0, 48 COEX_TXD, 49 PEFCLKN0, 50 SUSCLK, 51 GND7, 52 PERST0#, 53 CLKREQ0#, 54 W_DISABLE2#, 55 PEWAKE0#, 56 W_DISABLE1#, 57 GND8, 58 I2C_DATA, 59 Reserved/PETp1, 60 I2C_CLK, 61 Reserved/PETn1, 62 ALERT#, 63 GND9, 64 Reserved, 65 Reserved/PERp1, 66 UIM_SWP/PERST1#, 67 Reserved/PERn1, 68 UIM_POWER_SNK/CLKREQ1#, 69 GND10, 70 UIM_POWER_SRC/PEWAKE1#, 71 Reserved/REFCLKp1, 72 3.3V_3, 73 Reserved/REFCLKn1, 74 3.3V_4, 75 GND11, 76 SH1, 77 SH2
text: 1.8V

## M2_NGFF_M_KEY
designator J?
规格: M.2NGFF高度5.5MMM.2连接器镀金30UMKEY67PIN; 条码: EBF29040083; 类别: 金手指连接器; 规格书: M.2NGFF-M-67PIN.pdf; 生命周期: 量产; PCB Footprint: M2_NGFF_M_KEY; 规格编号: M2_NGFF_M_KEY
footprint M2_NGFF_M_KEY
pins: 1 CONFIG_3, 2 3.3V_1, 3 GND1, 4 3.3V_2, 5 PERn3, 6 N/A_1, 7 PERp3, 8 N/A_2, 9 GND2, 10 DAS/DSS, 11 PETn3, 12 3.3V_3, 13 PETp3, 14 3.3V_4, 15 GND3, 16 3.3V_5, 17 PERn2, 18 3.3V_6, 19 PERp2, 20 N/A_3, 21 CONFIG_0, 22 N/A_4, 23 PETn2, 24 N/A_5, 25 PETp2, 26 N/A_6, 27 GND4, 28 N/A_7, 29 PERn1, 30 N/A_8, 31 PERp1, 32 N/A_9, 33 GND5, 34 N/A_10, 35 PETn1, 36 N/A_11, 37 PETp1, 38 DEVSLP, 39 GND_6, 40 N/A_12, 41 SATA-/B+/PERn0, 42 N/A_13, 43 SATA-/B-/PERp0, 44 N/A_14, 45 GND_7, 46 N/A_15, 47 SATA-/A-/PETn0, 48 N/A_16, 49 SATA-/A+/PETp0, 50 PERST#, 51 GND_8, 52 CLKREQ#, 53 REFCLKN, 54 PEWAKE#, 55 REFCLKP, 56 MFG1, 57 GND_9, 58 MFG2, 67 N/A_17, 68 SUSCLK, 69 CONFIG_1, 70 3.3V_7, 71 GND_10, 72 3.3V_8, 73 GND_11, 74 3.3V_9, 75 CONFIG_2, 76 G1, 77 G2

## MARK
designator MR?, comment MARK1.6
光学定位点; 联系下单店铺卖家 免费技术支持: 联系下单店铺卖家 免费帮你查找封装; BOM名称: 光学定位点
footprint Mark 1 (光学定位点，直径1mm)
footprint Mark 1.6 (光学定位点，直径1.6mm)

## MIC_POM
designator P?
CLASS: IC; PCB Footprint: MIC2-4R00-TM; 规格: 4*1.2mm咪头 双电容驻极体话筒 拾音器 工作电压1.5V-10V 灵敏度-62DB 低阻抗; 规格编号: GMI4015P-2C-62db; 条码: EBFCIS221130183008; 品牌: 赢海; 类别: 麦克风; 规格书: 赢海_GMI4015P-2C-62db.pdf; 价格: 0.868384; 生命周期: 量产
footprint MIC2-4R00-TM
pins: 1 Out, 2 GND
text: +; -

## MOSFET N
designator Q?, comment WNM2016-3/TR
PCB Footprint: SOT23; 规格: N沟道MOS 导通电阻47mΩ 电流3.6A 4.5V 阈值电压(Vgs(th)@Id)1V 连续漏极电流2.9A; 条码: EBF29280014; 品牌: 韦尔; 类别: N-MOS; 规格书: WNM2016-3_TR.pdf; 备注: 立创停售; 规格编号: WNM2016-3/TR
footprint SOT23
pins: 1 GATE, 2 SOURCE, 3 DRAIN

## MOSFET_P
designator Q?, comment SSM3J328R-LF
CLASS: IC; 规格: P沟道MOS 导通电阻29.8mΩ 电流3A 1.5V可驱动; 规格编号: SSM3J328R LF; 条码: EBF29280008; 品牌: 东芝; 类别: P-MOS; 规格书: SSM3J328R-LF.pdf; 价格: 0.447836; 生命周期: 量产; 丝印: KFH-XXX; PCB Footprint: SOT23
footprint SOT23
pins: 1 GATE, 2 SOURCE, 3 DRAIN

## MP8759GD-Z
designator U?
生命周期: 量产; 价格: 3.2; 规格书: MPS_MP8759GD-Z.pdf; 类别: 电源管理-DCDC; 品牌: MPS; 条码: EBFCIS221112174800; 规格: DC-DC电源芯片 输入：4.5V-26V 电流：8A 频率: 固定700KHz频率  FB：0.6V; PCB Footprint: QFN12-2R00X3R00; 规格编号: MP8759GD-Z
footprint QFN12-2R00X3R00
pins: 1 VIN, 2 PGND, 3 PG, 4 NC, 5 VOUT, 6 MODE, 7 SW, 8 BST, 9 VCC, 10 AGND, 11 FB, 12 EN

## MST22D18G2
designator SW?  (value not drawn)
Manufacturer: SHOU HAN(首韩); Add into BOM: yes; Symbol: MST22D18G2; Device: MST22D18G2; LCSC Part Name: 两档立式贴片 6脚拨动 柄长2.0MM; Supplier Part: C431544; Manufacturer Part: MST22D18G2; Supplier Footprint: SMD,3.6x9.1mm; JLCPCB Part Class: 扩展库; Datasheet: https://atta.szlcsc.com/upload/public/pdf/source/20190925/C431544_D32DFFD935A96A6C5145903882D4ABA1.pdf; Supplier: LCSC; Convert to PCB: yes
footprint SW-SMD_MST22D18G2
3D model SW-SMD_MST22D18G2
pins: 1, 2, 3, 4, 5, 6
text: B; A

## NPN
designator Q?, comment SS8050
CLASS: IC; PCB Footprint: SOT23; 规格: 贴片三极管SS8050 集电极电流1.5A 额定功率300mW NPN; 条码: EBF29090001; 品牌: 江苏长电; 类别: 贴片三极管SOT-23; 规格书: 江苏长电-SS8050Y1.pdf; 价格: 0.086744; 生命周期: 量产; 丝印: Y1; 规格编号: SS8050
footprint SOT23
pins: 1 BASE (in), 2 EMITTER, 3 COLLECTOR

## NS4110B
designator U?
规格: 单声道AB/D类音频功率放大器 工作电压:6V~14V 输出功率:18W@4Ω 超低EMI 支持差分输入; 条码: EBFCIS230518164803; 品牌: 纳芯威; 类别: 音频芯片; 规格书: 纳芯威_NS4110B音频功放.pdf; 生命周期: 量产; 备注: RK3566广告机; PCB Footprint: SOP-8-EP-2R5X3R4; 规格编号: NS4110B
footprint SOP-8-EP-2R5X3R4
pins: 1 CTRL, 2 BYPASS, 3 INP, 4 INN, 5 VON, 6 VDD, 7 GND, 8 VOP, 9 EPAD

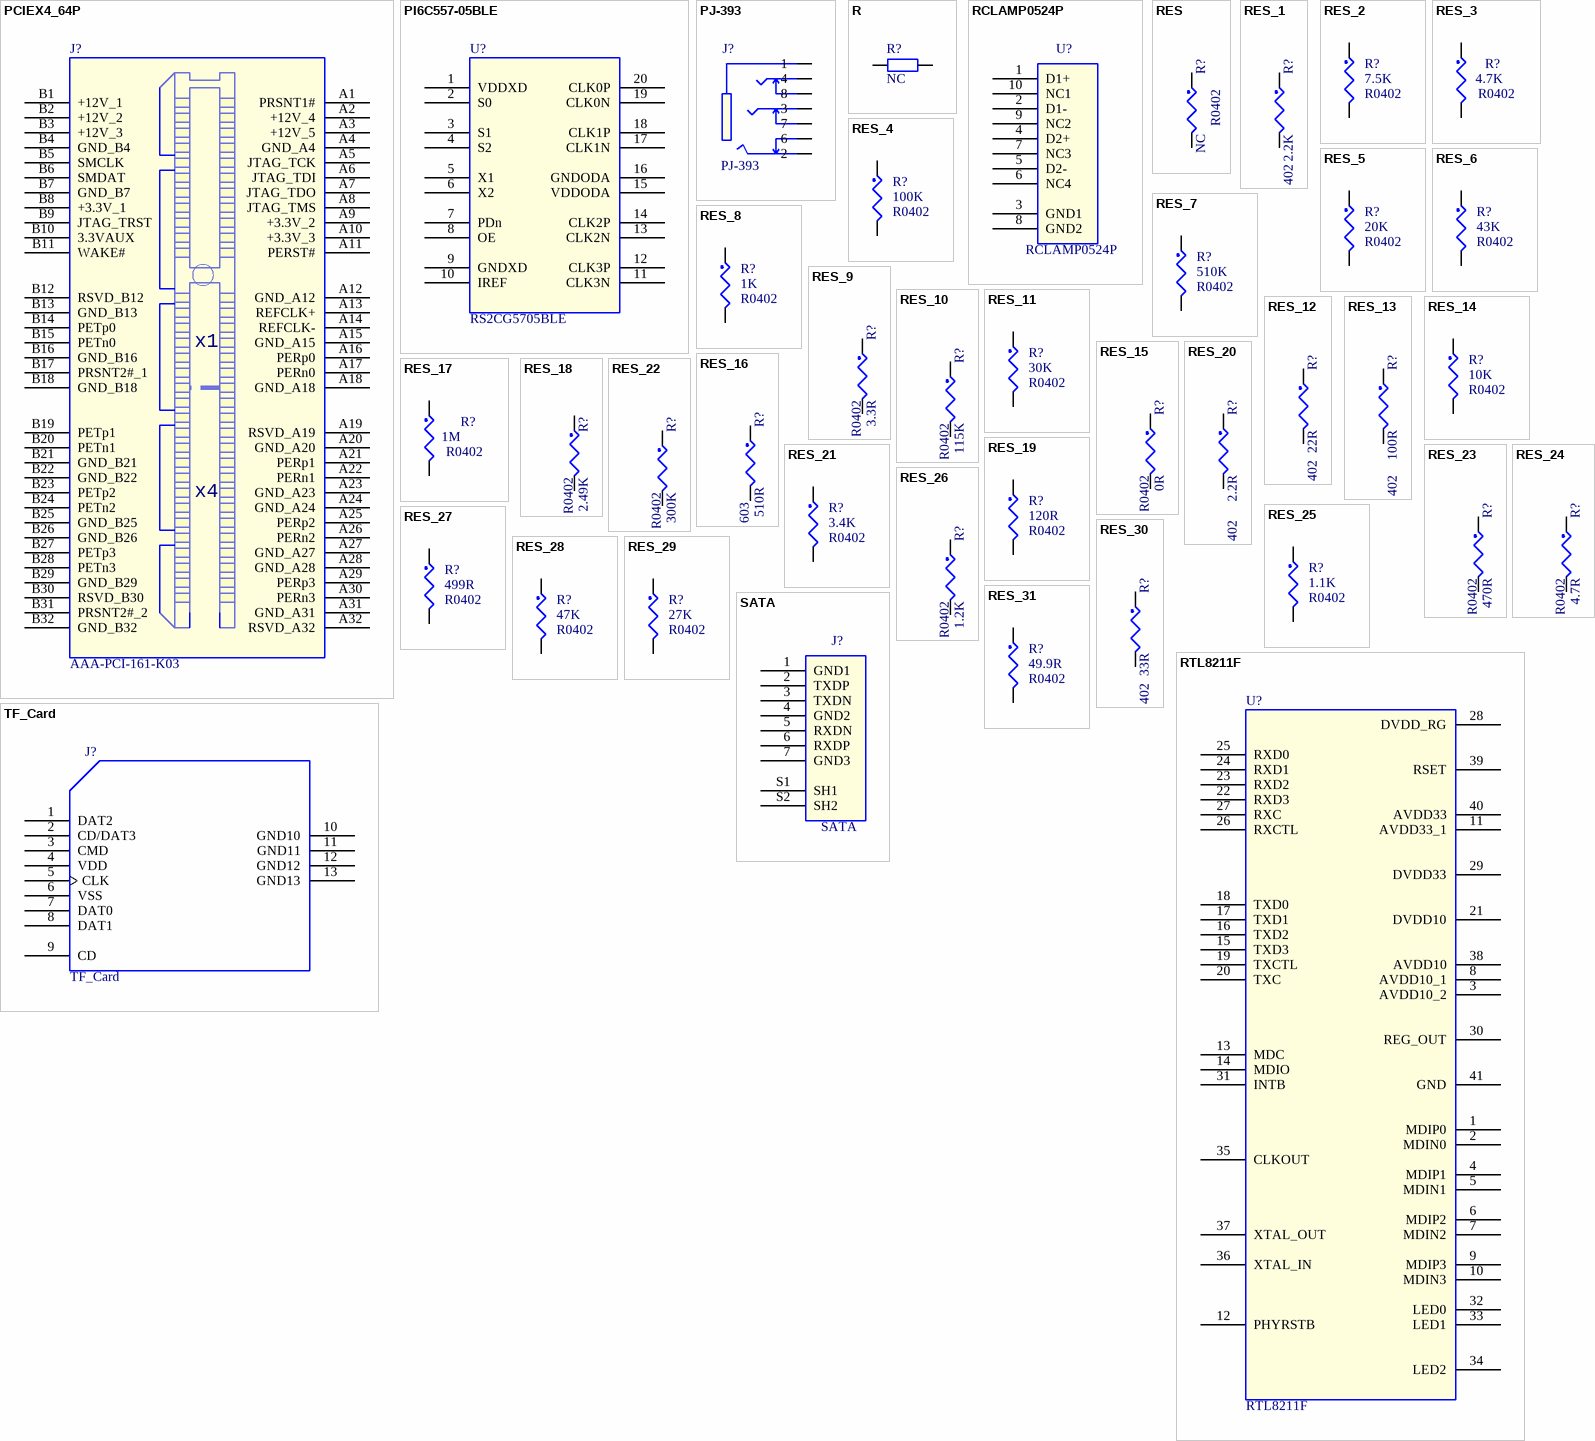
[diagram p2: symbols PCIEX4_64P to TF_Card]

## PCIEX4_64P
designator J?, comment AAA-PCI-161-K03
备注: RK3588 BTB底板; 生命周期: 量产; 规格书: 嘉澤端子_AAA-PCI-161-K03.pdf; 类别: 金手指连接器; 品牌: 嘉澤端子; 条码: EBFCIS230725213659; 规格: PCIEX4连接器 64P 插件; PCB Footprint: PCIE_64PIN_1R00; 规格编号: AAA-PCI-161-K03
footprint PCIE_64PIN_1R00
pins: A1 PRSNT1#, A2 +12V_4, A3 +12V_5, A4 GND_A4, A5 JTAG_TCK, A6 JTAG_TDI, A7 JTAG_TDO, A8 JTAG_TMS, A9 +3.3V_2, A10 +3.3V_3, A11 PERST#, A12 GND_A12, A13 REFCLK+, A14 REFCLK-, A15 GND_A15, A16 PERp0, A17 PERn0, A18 GND_A18, A19 RSVD_A19, A20 GND_A20, A21 PERp1, A22 PERn1, A23 GND_A23, A24 GND_A24, A25 PERp2, A26 PERn2, A27 GND_A27, A28 GND_A28, A29 PERp3, A30 PERn3, A31 GND_A31, A32 RSVD_A32, B1 +12V_1, B2 +12V_2, B3 +12V_3, B4 GND_B4, B5 SMCLK, B6 SMDAT, B7 GND_B7, B8 +3.3V_1, B9 JTAG_TRST, B10 3.3VAUX, B11 WAKE#, B12 RSVD_B12, B13 GND_B13, B14 PETp0, B15 PETn0, B16 GND_B16, B17 PRSNT2#_1, B18 GND_B18, B19 PETp1, B20 PETn1, B21 GND_B21, B22 GND_B22, B23 PETp2, B24 PETn2, B25 GND_B25, B26 GND_B26, B27 PETp3, B28 PETn3, B29 GND_B29, B30 RSVD_B30, B31 PRSNT2#_2, B32 GND_B32
text: x1; x4

## PI6C557-05BLE
designator U?, comment RS2CG5705BLE
备注: 通用; PCB Footprint: tssop20; 生命周期: 量产; 规格书: 锐星微_RS2CG5705BLE.pdf; 类别: 时钟信号发生器; 品牌: 锐星微; 条码: EBFCIS240814173115; 规格: PCIe Gen 3 时钟发生器 输出通道：4通道 工作电压3.0~3.6V 输入频率：25MHz 最大输出频率：200MHz; 规格编号: RS2CG5705BLE
footprint TSSOP20
pins: 1 VDDXD, 2 S0, 3 S1, 4 S2, 5 X1, 6 X2, 7 PDn, 8 OE, 9 GNDXD, 10 IREF, 11 CLK3N, 12 CLK3P, 13 CLK2N, 14 CLK2P, 15 VDDODA, 16 GNDODA, 17 CLK1N, 18 CLK1P, 19 CLK0N, 20 CLK0P

## PJ-393
designator J?
PCB Footprint: audio_smd_7p_6r0x8r8; 规格: PJ-393_3.5MM四段式耳机插座_7pin; 条码: EBF29040116; 类别: 耳机座; 规格书: PJ-393_3.5MM四段式耳机插座_7pin.pdf; 生命周期: 量产; 品牌: 品赞; 规格编号: PJ-393
footprint audio_smd_7p_6r0x8r8
pins: 1, 2, 3, 4, 6, 7, 8

## R
designator R?, comment NC
贴片电阻; 联系下单店铺卖家 免费帮你查找封装: 联系下单店铺卖家 免费技术支持; BOM名称: 贴片电阻
footprint R0201_L (1/20W贴片电阻)
footprint R0402_L (1/16W贴片电阻)
footprint R0603_L (1/10W贴片电阻)
footprint R0805_L (1/8W贴片电阻)
footprint R1206_L (1/4W贴片电阻)
footprint R1210_L (1/3W贴片电阻)
footprint R1812_L (1/2W贴片电阻)
footprint R2010_L (3/4W贴片电阻)
footprint R2512_L (1W贴片电阻)
footprint R0201_M (1/20W贴片电阻)
footprint R0402_M (1/16W贴片电阻)
footprint R0603_M (1/10W贴片电阻)
footprint R0805_M (1/8W贴片电阻)
footprint R1206_M (1/4W贴片电阻)
footprint R1210_M (1/3W贴片电阻)
footprint R1812_M (1/2W贴片电阻)
footprint R2010_M (3/4W贴片电阻)
footprint R2512_M (1W贴片电阻)
footprint R0201_NS (1/20W贴片电阻-无丝印)
footprint R0402_NS (1/16W贴片电阻-无丝印)
footprint R01005_NS (1/32W贴片电阻-无丝印)
footprint R0603_NS (1/10W贴片电阻-无丝印)
footprint R0805_NS (1/8W贴片电阻-无丝印)
footprint R1206_NS (1/4W贴片电阻-无丝印)
footprint R1210_NS (1/3W贴片电阻)
pins: 1, 2

## RCLAMP0524P
designator U?
规格: TVS二极管 箝位电压17V 击穿电压8V 反向关断电压5V; 条码: EBF29140046; 品牌: 台舟; 类别: 贴片四路ESD; 规格书: 台舟-RCLAMP0524P.pdf; 价格: 0.185957; 生命周期: 量产; PCB Footprint: USON_10; 规格编号: RCLAMP0524P
footprint USON_10
pins: 1 D1+, 2 D1-, 3 GND1, 4 D2+, 5 D2-, 6 NC4, 7 NC3, 8 GND2, 9 NC2, 10 NC1

## RES
designator R?, comment NC  PCB Footprint: R0402
CLASS: DISCRETE; 规格: 贴片电阻1K 1% 1/16W 0402; 规格编号: RI0402L1001FT; 条码: EBF29070050; 品牌: 合科泰; 类别: 贴片电阻0402; 规格书: 合科泰-RI系列电阻.pdf; 生命周期: 量产
footprint R0402
pins: 1, 2

## RES_1
designator R?, comment 2.2K  PCB Footprint: R0402
CLASS: DISCRETE; 类别: 贴片电阻0402; 条码: EBF29070087; 规格: 贴片电阻NC 预留
footprint R0402
pins: 1, 2

## RES_2
designator R?, comment 7.5K  PCB Footprint: R0402
CLASS: DISCRETE; 规格: 贴片电阻7.5K 1% 1/16W 0402; 规格编号: 0402WGF7501TCE; 条码: EBFCIS221112140245; 品牌: 厚声; 类别: 贴片电阻0402; 规格书: 厚声-无铅厚膜电阻.pdf; 价格: 0.001521; 生命周期: 量产
footprint R0402
pins: 1, 2

## RES_3
designator R?, comment 4.7K  PCB Footprint: R0402
CLASS: DISCRETE; 规格: 贴片电阻4.7K 1% 1/16W 0402; 规格编号: RI0402L4701FT; 条码: EBF29070047; 品牌: 合科泰; 类别: 贴片电阻0402; 规格书: 合科泰-RI系列电阻.pdf; 生命周期: 量产
footprint R0402
pins: 1, 2

## RES_4
designator R?, comment 100K  PCB Footprint: R0402
CLASS: DISCRETE; 生命周期: 量产; 规格书: 合科泰-RI系列电阻.pdf; 类别: 贴片电阻0402; 品牌: 合科泰; 条码: EBF29070054; 规格编号: RI0402L1003FT; 规格: 贴片电阻100K 1% 1/16W 0402
footprint R0402
pins: 1, 2

## RES_5
designator R?, comment 20K  PCB Footprint: R0402
CLASS: DISCRETE; 生命周期: 量产; 价格: 0.002473; 规格书: 厚声-无铅厚膜电阻.pdf; 类别: 贴片电阻0402; 品牌: 厚声; 条码: EBF29070223; 规格编号: 0402WGF2002TCE; 规格: 贴片电阻20K 1% 1/16W 0402
footprint R0402
pins: 1, 2

## RES_6
designator R?, comment 43K  PCB Footprint: R0402
CLASS: DISCRETE; 规格: 贴片电阻43K 1% 1/16W 0402; 规格编号: AC0402FR-0743KL; 条码: EBF29070011; 品牌: 国巨; 类别: 贴片电阻0402; 规格书: YAGEO国巨厚膜无铅电阻.pdf; 价格: 0.00683; 生命周期: 量产
footprint R0402
pins: 1, 2

## RES_7
designator R?, comment 510K  PCB Footprint: R0402
CLASS: DISCRETE; 规格: 贴片电阻510K 1% 1/16W 0402; 规格编号: RI0603L5103FT; 条码: EBF29070241; 品牌: 合科泰; 类别: 贴片电阻0402; 规格书: 合科泰-RI系列电阻.pdf; 生命周期: 量产
footprint R0402
pins: 1, 2

## RES_8
designator R?, comment 1K  PCB Footprint: R0402
CLASS: DISCRETE; 生命周期: 量产; 规格书: 合科泰-RI系列电阻.pdf; 类别: 贴片电阻0402; 品牌: 合科泰; 条码: EBF29070050; 规格编号: RI0402L1001FT; 规格: 贴片电阻1K 1% 1/16W 0402
footprint R0402
pins: 1, 2

## RES_9
designator R?, comment 3.3R  PCB Footprint: R0402
CLASS: DISCRETE; 规格: 贴片电阻3.3R 1% 1/16W 0402; 规格编号: 0402WGF330KTCE; 条码: EBFCIS221116113428; 品牌: 厚声; 类别: 贴片电阻0402; 规格书: 厚声-无铅厚膜电阻.pdf; 价格: 0.003117; 生命周期: 量产
footprint R0402
pins: 1, 2

## RES_10
designator R?, comment 115K  PCB Footprint: R0402
CLASS: DISCRETE; 生命周期: 量产; 价格: 0.006087; 规格书: YAGEO国巨厚膜无铅电阻.pdf; 类别: 贴片电阻0402; 品牌: 国巨; 条码: EBF29070290; 规格编号: AC0402FR-07115KL; 规格: 贴片电阻115K 1% 1/16W 0402
footprint R0402
pins: 1, 2

## RES_11
designator R?, comment 30K  PCB Footprint: R0402
CLASS: DISCRETE; 规格: 贴片电阻30K 1% 1/16W 0402; 规格编号: RI0402L3002FT; 条码: EBF29070048; 品牌: 合科泰; 类别: 贴片电阻0402; 规格书: 合科泰-RI系列电阻.pdf; 生命周期: 量产
footprint R0402
pins: 1, 2

## RES_12
designator R?, comment 22R  PCB Footprint: R0402
CLASS: DISCRETE; 规格: 贴片电阻22R 1% 1/16W 0402; 规格编号: RI0402L22R0FT; 条码: EBF29070181; 品牌: 合科泰; 类别: 贴片电阻0402; 规格书: 合科泰-RI系列电阻.pdf; 生命周期: 量产
footprint R0402
pins: 1, 2

## RES_13
designator R?, comment 100R  PCB Footprint: R0402
CLASS: DISCRETE; 规格: 贴片电阻100R 1% 1/16W 0402; 规格编号: RI0402L1000FT; 条码: EBF29070053; 品牌: 合科泰; 类别: 贴片电阻0402; 规格书: 合科泰-RI系列电阻.pdf; 生命周期: 量产
footprint R0402
pins: 1, 2

## RES_14
designator R?, comment 10K  PCB Footprint: R0402
CLASS: DISCRETE; 生命周期: 量产; 价格: 0.002773; 规格书: 厚声-无铅厚膜电阻.pdf; 类别: 贴片电阻0402; 品牌: 厚声; 条码: EBF29070046; 规格编号: 0402WGF1002TCE; 规格: 贴片电阻10K 1% 1/16W 0402
footprint R0402
pins: 1, 2

## RES_15
designator R?, comment 0R  PCB Footprint: R0402
CLASS: DISCRETE; 生命周期: 量产; 规格书: 合科泰-RI系列电阻.pdf; 类别: 贴片电阻0402; 品牌: 合科泰; 条码: EBF29070049; 规格编号: RI0402L000FT; 规格: 贴片电阻0R 1% 1/16W 0402
footprint R0402
pins: 1, 2

## RES_16
designator R?, comment 510R  PCB Footprint: R0603
CLASS: DISCRETE; 规格: 贴片电阻510R 1% 1/10W 0603; 规格编号: RI0603L5100FT; 条码: EBF29070091; 品牌: 合科泰; 类别: 贴片电阻0603; 规格书: 合科泰-RI系列电阻.pdf; 生命周期: 量产
footprint R0603
pins: 1, 2

## RES_17
designator R?, comment 1M  PCB Footprint: R0402
CLASS: DISCRETE; 生命周期: 量产; 规格书: 合科泰-RI系列电阻.pdf; 类别: 贴片电阻0402; 品牌: 厚声; 条码: EBF29070062; 规格编号: RI0402L1004FT; 规格: 贴片电阻1M 1% 1/16W 0402
footprint R0402
pins: 1, 2

## RES_18
designator R?, comment 2.49K  PCB Footprint: R0402
CLASS: DISCRETE; 价格: 0.004709; 生命周期: 量产; 规格书: 厚声-无铅厚膜电阻.pdf; 类别: 贴片电阻0402; 品牌: 厚声; 条码: EBF29070292; 规格编号: 0402WGF2491TCE; 规格: 贴片电阻2.49K 1% 1/16W 0402
footprint R0402
pins: 1, 2

## RES_19
designator R?, comment 120R  PCB Footprint: R0402
CLASS: DISCRETE; 生命周期: 量产; 规格书: 厚声-无铅厚膜电阻.pdf; 类别: 贴片电阻0402; 品牌: 厚声; 条码: EBF29070275; 规格编号: 0402WGF1200TCE; 规格: 贴片电阻120R 1% 1/16W 0402; 价格: 0.002198
footprint R0402
pins: 1, 2

## RES_20
designator R?, comment 2.2R  PCB Footprint: R0402
CLASS: DISCRETE; 生命周期: 量产; 价格: 0.003072; 规格书: 厚声-无铅厚膜电阻.pdf; 类别: 贴片电阻0402; 品牌: 厚声; 条码: EBF29070280; 规格编号: 0402WGF220KTCE; 规格: 贴片电阻2.2R 1% 1/16W 0402
footprint R0402
pins: 1, 2

## RES_21
designator R?, comment 3.4K  PCB Footprint: R0402
CLASS: DISCRETE; 生命周期: 量产; 规格书: 合科泰-RI系列电阻.pdf; 类别: 贴片电阻0402; 品牌: 合科泰; 条码: EBF29070186; 规格编号: RI0402L3401FT; 规格: 贴片电阻3.4K 1% 1/16W 0402
footprint R0402
pins: 1, 2

## RES_22
designator R?, comment 300K  PCB Footprint: R0402
CLASS: DISCRETE; 规格: 贴片电阻300K 1% 1/16W 0402; 规格编号: RI0402L3003FT; 条码: EBF29070220; 品牌: 合科泰; 类别: 贴片电阻0402; 规格书: 合科泰-RI系列电阻.pdf; 生命周期: 量产
footprint R0402
pins: 1, 2

## RES_23
designator R?, comment 470R  PCB Footprint: R0402
CLASS: DISCRETE; 规格: 贴片电阻470R 1% 1/16W 0402; 规格编号: 0402WGF4700TCE; 条码: EBF29070284; 品牌: 厚声; 类别: 贴片电阻0402; 规格书: 厚声-无铅厚膜电阻.pdf; 价格: 0.002728; 生命周期: 量产
footprint R0402
pins: 1, 2

## RES_24
designator R?, comment 4.7R  PCB Footprint: R0402
CLASS: DISCRETE; 规格: 贴片电阻4.7R 1% 1/16W 0402; 规格编号: 0402WGF470KTCE; 条码: EBFCIS221112135607; 品牌: 厚声; 类别: 贴片电阻0402; 规格书: 厚声-无铅厚膜电阻.pdf; 价格: 0.003317; 生命周期: 量产
footprint R0402
pins: 1, 2

## RES_25
designator R?, comment 1.1K  PCB Footprint: R0402
CLASS: DISCRETE; 规格: 贴片电阻1.1K 1% 1/16W 0402; 规格编号: 0402WGF1101TCE; 条码: EBFCIS221112135212; 品牌: 厚声; 类别: 贴片电阻0402; 规格书: 厚声-无铅厚膜电阻.pdf; 价格: 0.001622; 生命周期: 量产
footprint R0402
pins: 1, 2

## RES_26
designator R?, comment 1.2K  PCB Footprint: R0402
CLASS: DISCRETE; 生命周期: 量产; 价格: 0.001447; 规格书: 厚声-无铅厚膜电阻.pdf; 类别: 贴片电阻0402; 品牌: 厚声; 条码: EBFCIS221112112140; 规格编号: 0402WGF1201TCE; 规格: 贴片电阻1.2K 1% 1/16W 0402
footprint R0402
pins: 1, 2

## RES_27
designator R?, comment 499R  PCB Footprint: R0402
CLASS: DISCRETE; 生命周期: 量产; 价格: 0.003791; 规格书: 厚声-无铅厚膜电阻.pdf; 类别: 贴片电阻0402; 品牌: 厚声; 条码: EBF29070287; 规格编号: 0402WGF4990TCE; 规格: 贴片电阻499R 1% 1/16W 0402
footprint R0402
pins: 1, 2

## RES_28
designator R?, comment 47K  PCB Footprint: R0402
CLASS: DISCRETE; 生命周期: 量产; 规格书: 厚声-无铅厚膜电阻.pdf; 类别: 贴片电阻0402; 品牌: 厚声; 条码: EBF29070247; 规格编号: 0402WGF4702TCE; 规格: 贴片电阻47K 1% 1/16W 0402
footprint R0402
pins: 1, 2

## RES_29
designator R?, comment 27K  PCB Footprint: R0402
CLASS: DISCRETE; 生命周期: 量产; 价格: 0.007054; 规格书: YAGEO国巨厚膜无铅电阻.pdf; 类别: 贴片电阻0402; 品牌: 国巨; 条码: EBF29070003; 规格编号: AC0402FR-0727KL; 规格: 贴片电阻27K 1% 1/16W 0402
footprint R0402
pins: 1, 2

## RES_30
designator R?, comment 33R  PCB Footprint: R0402
CLASS: DISCRETE; 生命周期: 量产; 价格: 0.002158; 规格书: 厚声-无铅厚膜电阻.pdf; 类别: 贴片电阻0402; 品牌: 厚声; 条码: EBF29070187; 规格编号: 0402WGF330JTCE; 规格: 贴片电阻33R 1% 1/16W 0402
footprint R0402
pins: 1, 2

## RES_31
designator R?, comment 49.9R  PCB Footprint: R0402
CLASS: DISCRETE; 生命周期: 量产; 价格: 0.002703; 规格书: 厚声-无铅厚膜电阻.pdf; 类别: 贴片电阻0402; 品牌: 厚声; 条码: EBF29070059; 规格编号: 0402WGF499JTCE; 规格: 贴片电阻49.9R 1% 1/16W 0402
footprint R0402
pins: 1, 2

## RTL8211F
designator U?
价格: 15.2; 生命周期: 量产; 规格书: 瑞昱_RTL8211F-CG.pdf; 类别: 以太网芯片; 品牌: 瑞昱; 条码: EBF29150018; 规格编号: RTL8211F-CG; 规格: 以太网芯片 10M/100M/1000M 控制接口：RGMII RGMII电压：3.3V/2.5V/1.8V/1.5V; PCB Footprint: qfp_40p_r
footprint qfp_40p_r
pins: 1 MDIP0, 2 MDIN0, 3 AVDD10_2, 4 MDIP1, 5 MDIN1, 6 MDIP2, 7 MDIN2, 8 AVDD10_1, 9 MDIP3, 10 MDIN3, 11 AVDD33_1, 12 PHYRSTB, 13 MDC, 14 MDIO, 15 TXD3, 16 TXD2, 17 TXD1, 18 TXD0, 19 TXCTL, 20 TXC, 21 DVDD10, 22 RXD3, 23 RXD2, 24 RXD1, 25 RXD0, 26 RXCTL, 27 RXC, 28 DVDD_RG, 29 DVDD33, 30 REG_OUT, 31 INTB, 32 LED0, 33 LED1, 34 LED2, 35 CLKOUT, 36 XTAL_IN, 37 XTAL_OUT, 38 AVDD10, 39 RSET, 40 AVDD33, 41 GND

## SATA
designator J?
PCB Footprint: ssata_v; 生命周期: 量产; 规格书: SATA_7PIN.pdf; 类别: SATA连接器; 品牌: 华宇创; 条码: EBF29040076; 规格编号: HYCW01-SATA07-205B; 规格: SATA 7PIN 全包开窗 A型
footprint ssata_v
pins: 1 GND1, 2 TXDP, 3 TXDN, 4 GND2, 5 RXDN, 6 RXDP, 7 GND3, S1 SH1 (power), S2 SH2 (power)

## TF_Card
designator J?
CLASS: IO; PCB Footprint: TFCARD; 可替代料: EBF29040003; 生命周期: 量产; 价格: 0.48; 规格书: 硕方-TF-015.pdf; 类别: SD卡连接器; 品牌: 硕方; 规格编号: TF-015; 规格: MICRO SD 卡座 TF T-Flash 外焊 双压片 自弹贴片; 条码: EBF29040003
footprint TFCARD
pins: 1 DAT2, 2 CD/DAT3, 3 CMD, 4 VDD (power), 5 CLK, 6 VSS (power), 7 DAT0, 8 DAT1, 9 CD, 10 GND10, 11 GND11, 12 GND12, 13 GND13

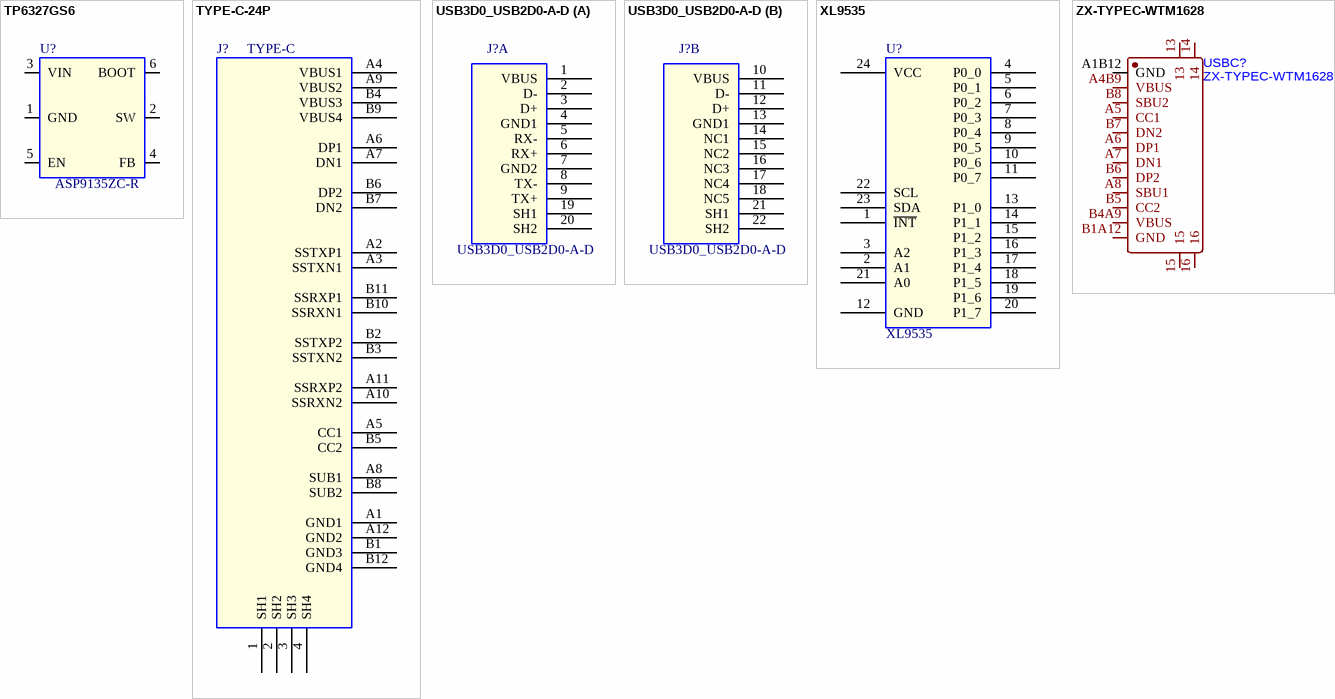
[diagram p3: symbols TP6327GS6 to ZX-TYPEC-WTM1628]

## TP6327GS6
designator U?, comment ASP9135ZC-R
规格: DC-DC电源芯片 可输出电流 3A 开关工作频率 600kHz 输出类型 ADJ 输入电压范围：4V-18V; 条码: EBFCIS240710113940; 品牌: 安森德; 类别: 电源管理-DCDC; 规格书: 安森德_ASP9135ZC-R.pdf; 生命周期: 量产; 备注: RK3566金手指与BTB底板替换物料; 可替代料: TP6327GS6; PCB Footprint: SOT23_6; 规格编号: ASP9135ZC-R
footprint SOT23_6
pins: 1 GND, 2 SW, 3 VIN, 4 FB, 5 EN, 6 BOOT

## TYPE-C-24P
designator J?, comment TYPE-C
规格书: 讯普_TYC-324G.pdf; 类别: USB接口; 品牌: 讯普; 条码: EBFCIS220922094113; 规格编号: TYC-324G; 规格: Type-C母座 24P USB-3.1 插座 4固定脚 双向; PCB Footprint: usb-c-smd_tyc-324g
footprint usb-c-smd_tyc-324g
pins: 1 SH1, 2 SH2, 3 SH3, 4 SH4, A1 GND1, A2 SSTXP1, A3 SSTXN1, A4 VBUS1, A5 CC1, A6 DP1, A7 DN1, A8 SUB1, A9 VBUS2, A10 SSRXN2, A11 SSRXP2, A12 GND2, B1 GND3, B2 SSTXP2, B3 SSTXN2, B4 VBUS3, B5 CC2, B6 DP2, B7 DN2, B8 SUB2, B9 VBUS4, B10 SSRXN1, B11 SSRXP1, B12 GND4

## USB3D0_USB2D0-A-D
designator J?
品牌: 富士康; 生命周期: 量产; 规格书: UEA1112C-UHS6-4F.pdf; 类别: USB接口; 条码: EBF29040092; 规格编号: UEA1112C-UHS6-4F; 规格: USB3.0_USB2.0母座; PCB Footprint: USB3D0-AF-18P
footprint USB3D0-AF-18P
part A pins: 1 VBUS, 2 D-, 3 D+, 4 GND1, 5 RX-, 6 RX+, 7 GND2, 8 TX-, 9 TX+, 19 SH1, 20 SH2
part B pins: 10 VBUS, 11 D-, 12 D+, 13 GND1, 14 NC1, 15 NC2, 16 NC3, 17 NC4, 18 NC5, 21 SH1, 22 SH2

## XL9535
designator U?
丝印: XL9535D; 备注: RK3588 BTB底板; 生命周期: 量产; 价格: 1.75; 规格书: 信路达_XL9535.pdf; 类别: IO拓展; 品牌: 信路达; 条码: EBFCIS230803102100; 规格: I2C接口 16个双向输入输出引脚 支持中断输出 工作电压2.3V~5.5V; PCB Footprint: TSSOP24-0R65-7R80X4R40; 规格编号: XL9535
footprint TSSOP24-0R65-7R80X4R40
pins: 1 ~{INT}, 2 A1, 3 A2, 4 P0_0, 5 P0_1, 6 P0_2, 7 P0_3, 8 P0_4, 9 P0_5, 10 P0_6, 11 P0_7, 12 GND, 13 P1_0, 14 P1_1, 15 P1_2, 16 P1_3, 17 P1_4, 18 P1_5, 19 P1_6, 20 P1_7, 21 A0, 22 SCL, 23 SDA, 24 VCC

## ZX-TYPEC-WTM1628
designator USBC?
footprint USB-C-SMD_ZX-TYPEC-WTM1628
pins: 13, 14, 15, 16, A1B12 GND, A4B9 VBUS, A5 CC1, A6 DP1, A7 DN1, A8 SBU1, B1A12 GND, B4A9 VBUS, B5 CC2, B6 DP2, B7 DN2, B8 SBU2